# Altium schematic symbol library ELVmega.SchLib: 12 symbols
Pins are listed as number, name and electrical type; pins without a type are passive.

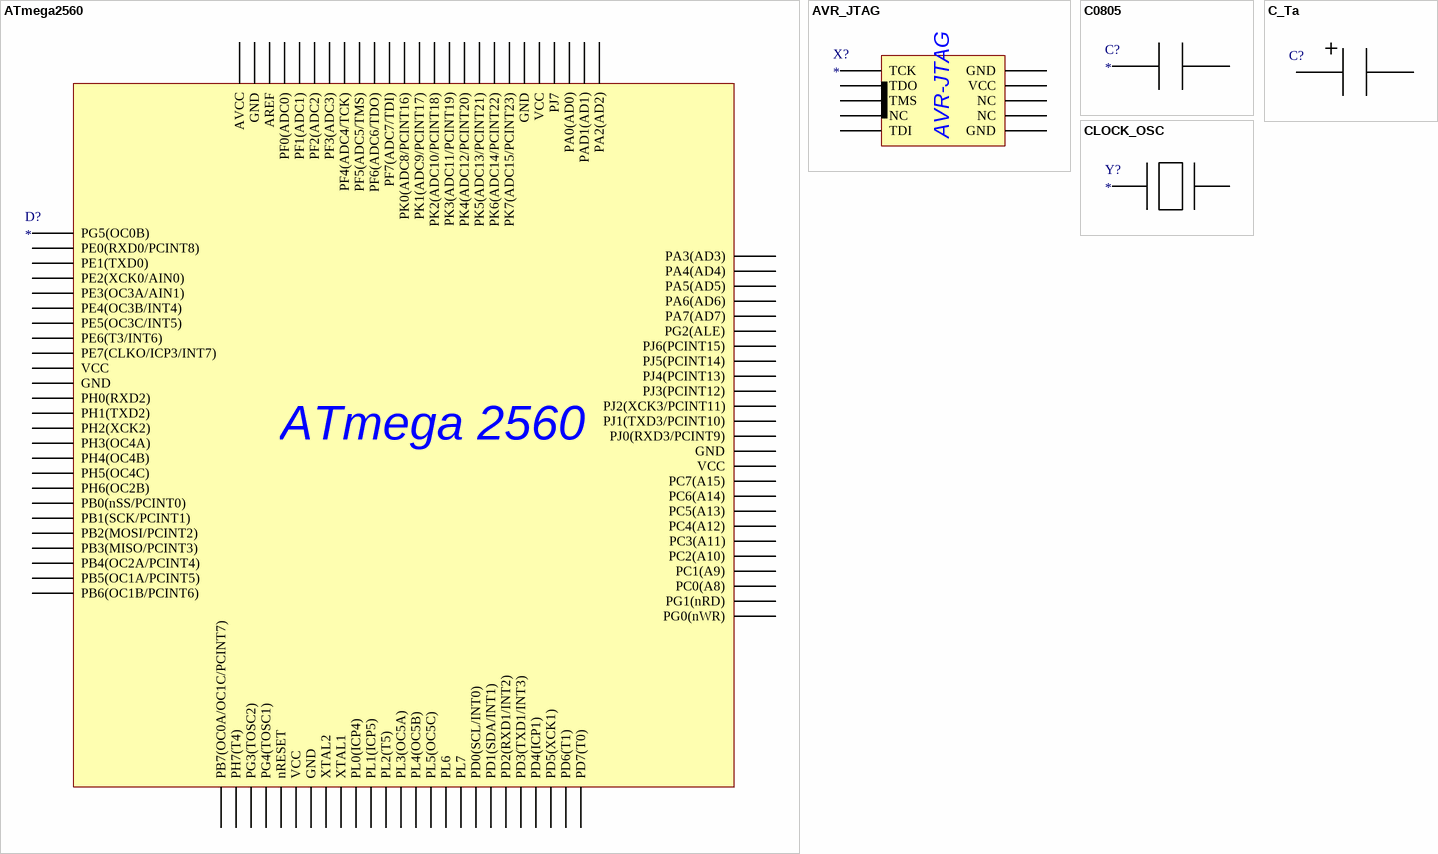
[diagram p0: symbols ATmega2560 to CLOCK_OSC]

## ATmega2560
designator D?
footprint ATmega2560-16AU
pins: 1 PG5(OC0B), 2 PE0(RXD0/PCINT8), 3 PE1(TXD0), 4 PE2(XCK0/AIN0), 5 PE3(OC3A/AIN1), 6 PE4(OC3B/INT4), 7 PE5(OC3C/INT5), 8 PE6(T3/INT6), 9 PE7(CLKO/ICP3/INT7), 10 VCC, 11 GND, 12 PH0(RXD2), 13 PH1(TXD2), 14 PH2(XCK2), 15 PH3(OC4A), 16 PH4(OC4B), 17 PH5(OC4C), 18 PH6(OC2B), 19 PB0(nSS/PCINT0), 20 PB1(SCK/PCINT1), 21 PB2(MOSI/PCINT2), 22 PB3(MISO/PCINT3), 23 PB4(OC2A/PCINT4), 24 PB5(OC1A/PCINT5), 25 PB6(OC1B/PCINT6), 26 PB7(OC0A/OC1C/PCINT7), 27 PH7(T4), 28 PG3(TOSC2), 29 PG4(TOSC1), 30 nRESET, 31 VCC, 32 GND, 33 XTAL2, 34 XTAL1, 35 PL0(ICP4), 36 PL1(ICP5), 37 PL2(T5), 38 PL3(OC5A), 39 PL4(OC5B), 40 PL5(OC5C), 41 PL6, 42 PL7, 43 PD0(SCL/INT0), 44 PD1(SDA/INT1), 45 PD2(RXD1/INT2), 46 PD3(TXD1/INT3), 47 PD4(ICP1), 48 PD5(XCK1), 49 PD6(T1), 50 PD7(T0), 51 PG0(nWR), 52 PG1(nRD), 53 PC0(A8), 54 PC1(A9), 55 PC2(A10), 56 PC3(A11), 57 PC4(A12), 58 PC5(A13), 59 PC6(A14), 60 PC7(A15), 61 VCC, 62 GND, 63 PJ0(RXD3/PCINT9), 64 PJ1(TXD3/PCINT10), 65 PJ2(XCK3/PCINT11), 66 PJ3(PCINT12), 67 PJ4(PCINT13), 68 PJ5(PCINT14), 69 PJ6(PCINT15), 70 PG2(ALE), 71 PA7(AD7), 72 PA6(AD6), 73 PA5(AD5), 74 PA4(AD4), 75 PA3(AD3), 76 PA2(AD2), 77 PAD1(AD1), 78 PA0(AD0), 79 PJ7, 80 VCC, 81 GND, 82 PK7(ADC15/PCINT23), 83 PK6(ADC14/PCINT22), 84 PK5(ADC13/PCINT21), 85 PK4(ADC12/PCINT20), 86 PK3(ADC11/PCINT19), 87 PK2(ADC10/PCINT18), 88 PK1(ADC9/PCINT17), 89 PK0(ADC8/PCINT16), 90 PF7(ADC7/TDI), 91 PF6(ADC6/TDO), 92 PF5(ADC5/TMS), 93 PF4(ADC4/TCK), 94 PF3(ADC3), 95 PF2(ADC2), 96 PF1(ADC1), 97 PF0(ADC0), 98 AREF, 99 GND, 100 AVCC
text: ATmega 2560

## AVR_JTAG
designator X?
footprint JTAG_PLD
pins: 1 TCK, 2 GND, 3 TDO, 4 VCC, 5 TMS, 6 NC, 7 NC, 8 NC, 9 TDI, 10 GND
text: AVR-JTAG

## C0805
designator C?
0805 ceramic capacitor; Capacity: *
footprint 0805 (0805 footprint)
pins: 1, 2

## C_Ta
designator C?  (value not drawn)
tantalum capacitor; capacity: *
footprint C_Ta
pins: 1, 2

## CLOCK_OSC
designator Y?
low speed external clock
footprint JUMPER_SWITCH_2S (2 state jumper switch)
pins: 1, 2

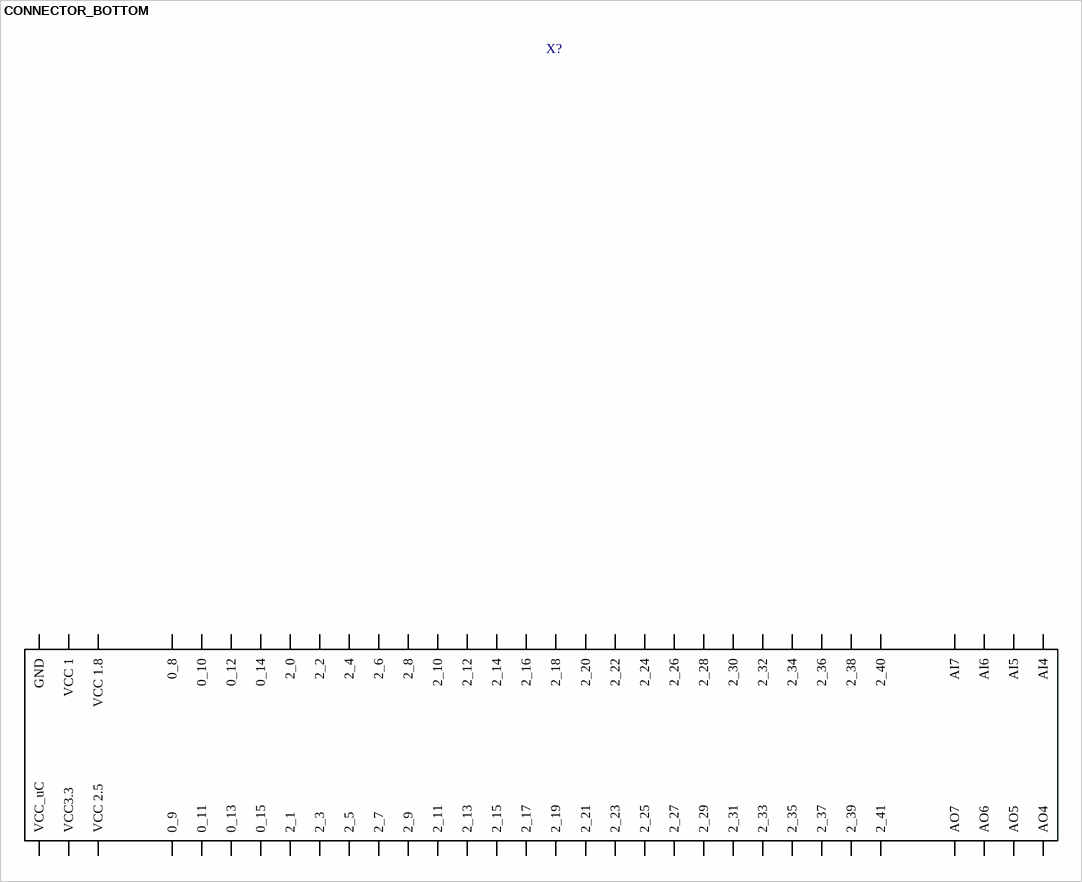
[diagram p1: symbol CONNECTOR_BOTTOM]

## CONNECTOR_BOTTOM
designator X?  (value not drawn)
control board connector
footprint Connector (MCU/FPGA board connector)
pins: 0 GND, 1 VCC 1, 2 VCC 1.8, 3 0_8, 4 0_10, 5 0_12, 6 0_14, 7 2_0, 8 2_2, 9 2_4, 10 2_6, 11 2_8, 12 2_10, 13 2_12, 14 2_14, 15 2_16, 16 2_18, 17 2_20, 18 2_22, 19 2_24, 20 2_26, 21 2_28, 22 2_30, 23 2_32, 24 2_34, 25 2_36, 26 2_38, 27 2_40, 28 AI7, 29 AI6, 30 AI5, 31 AI4, 32 AO4, 33 AO5, 34 AO6, 35 AO7, 36 2_41, 37 2_39, 38 2_37, 39 2_35, 40 2_33, 41 2_31, 42 2_29, 43 2_27, 44 2_25, 45 2_23, 46 2_21, 47 2_19, 48 2_17, 49 2_15, 50 2_13, 51 2_11, 52 2_9, 53 2_7, 54 2_5, 55 2_3, 56 2_1, 57 0_15, 58 0_13, 59 0_11, 60 0_9, 61 VCC 2.5, 62 VCC3.3, 63 VCC_uC

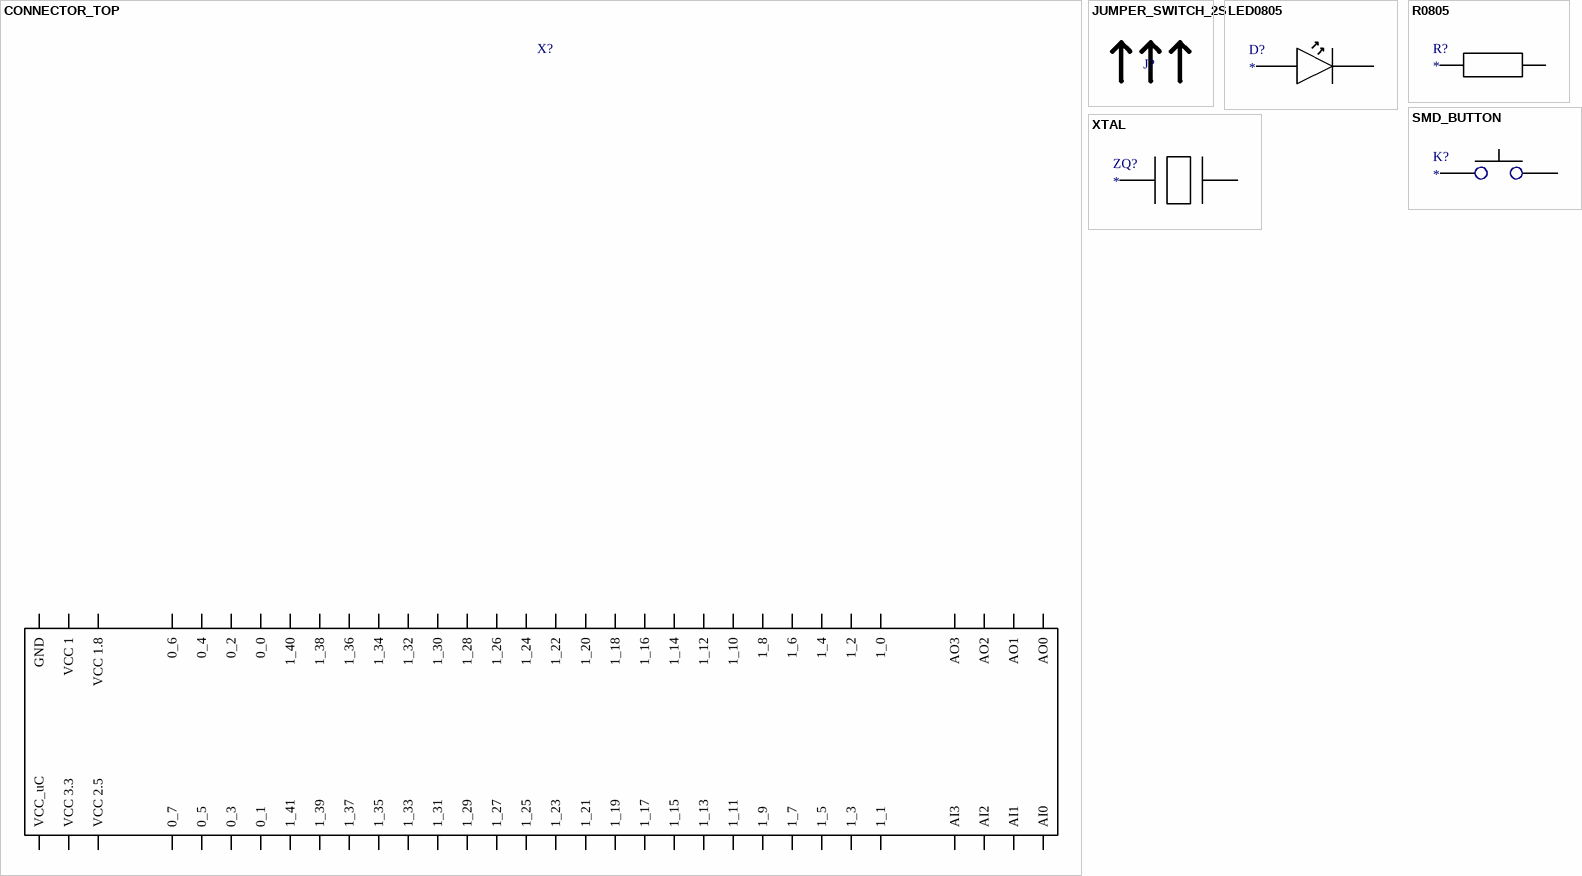
[diagram p2: symbols CONNECTOR_TOP to XTAL]

## CONNECTOR_TOP
designator X?
control board connector; Value: 10 k
footprint Connector (MCU/FPGA board connector)
pins: 0 GND, 1 VCC 1, 2 VCC 1.8, 3 0_6, 4 0_4, 5 0_2, 6 0_0, 7 1_40, 8 1_38, 9 1_36, 10 1_34, 11 1_32, 12 1_30, 13 1_28, 14 1_26, 15 1_24, 16 1_22, 17 1_20, 18 1_18, 19 1_16, 20 1_14, 21 1_12, 22 1_10, 23 1_8, 24 1_6, 25 1_4, 26 1_2, 27 1_0, 28 AO3, 29 AO2, 30 AO1, 31 AO0, 32 AI0, 33 AI1, 34 AI2, 35 AI3, 36 1_1, 37 1_3, 38 1_5, 39 1_7, 40 1_9, 41 1_11, 42 1_13, 43 1_15, 44 1_17, 45 1_19, 46 1_21, 47 1_23, 48 1_25, 49 1_27, 50 1_29, 51 1_31, 52 1_33, 53 1_35, 54 1_37, 55 1_39, 56 1_41, 57 0_1, 58 0_3, 59 0_5, 60 0_7, 61 VCC 2.5, 62 VCC 3.3, 63 VCC_uC

## JUMPER_SWITCH_2S
designator J?
2 state jumper switch
footprint JUMPER_SWITCH_2S (2 state jumper switch)
pins: 0, 1, 2

## LED0805
designator D?
footprint 0805
pins: 1, 2

## R0805
designator R?
0805 resistor; Resistance: *
footprint 0805
pins: 1, 2

## SMD_BUTTON
designator K?
smd micro button
footprint SMD_BUTTON
pins: 1, 2

## XTAL
designator ZQ?
high speed external clock; Frequency: *
footprint XTAL
pins: 1, 2